# Altium footprint library 28Pins_Project_PCBlib.PcbLib: 27 footprints (part 1 of 2)
Each footprint in its own frame and in the unit in brackets; x right, y up, seen from the top. Pads: shape width x height; smd on the part's side, far side on the other; paste and mask are expansions set on the pad; w line width, h text height; cw(c..) or ccw(c..) is an arc to the next point about the centre after c.
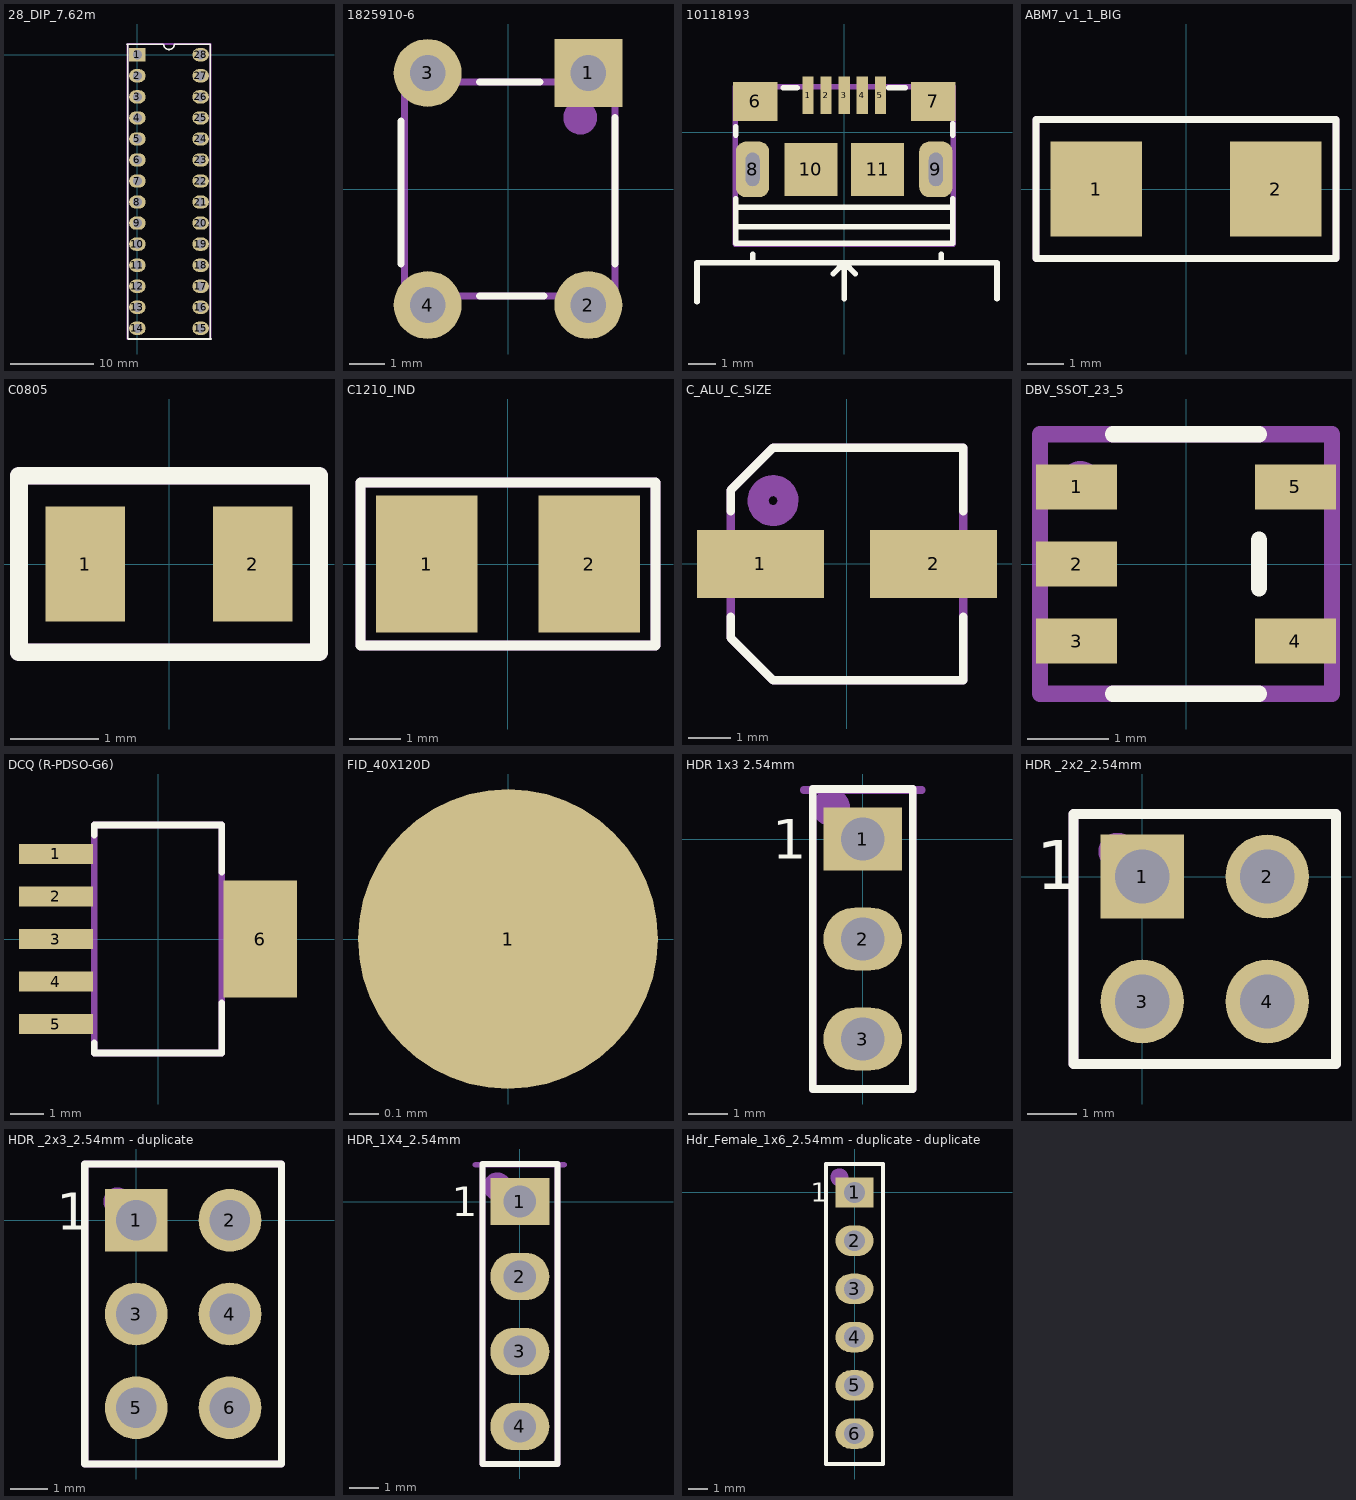
[diagram p0: the footprints below, top view; thin cyan lines are the x and y axes]

## 28_DIP_7.62m [mm]
pads (28):
  rect 2x1.6 hole 1.1: 1(0,0)
  oval 2x1.6 hole 1.1: 2(0,-2.54) 3(0,-5.08) 4(0,-7.62) 5(0,-10.16) 6(0,-12.7) 7(0,-15.24) 8(0,-17.78) 9(0,-20.32) 10(0,-22.86) 11(0,-25.4) 12(0,-27.94) 13(0,-30.48) 14(0,-33.02) 15(7.62,-33.02) 16(7.62,-30.48) 17(7.62,-27.94) 18(7.62,-25.4) 19(7.62,-22.86) 20(7.62,-20.32) 21(7.62,-17.78) 22(7.62,-15.24) 23(7.62,-12.7) 24(7.62,-10.16) 25(7.62,-7.62) 26(7.62,-5.08) 27(7.62,-2.54) 28(7.62,0)
Top Overlay:
  lines w0.2: -1.29,1.29 3.075,1.29 ; -1.19,-34.29 -1.19,1.27 ; -1.09,-34.31 8.91,-34.31 ; 3.175,1.27 ccw(c3.81,1.27) 4.445,1.27 ; 4.445,1.29 8.81,1.29 ; 8.81,-34.29 8.81,1.27
Mechanical 1:
  circle w0.5: c-0.09,0.09 r0.141
  lines w0.254: -1.19,-34.31 8.81,-34.31 8.81,1.29 -1.19,1.29 -1.19,-34.31
  text ".Designator" at 4.9,-31.5 h3
3D body "User Library-28 pin dip.step": height 7.55, standoff 1.33, extent -0.09,-34.481 7.784,1.461

## 28_DIP_7.62mm_SOCKET [mm]
3D body "User Library-28pin 0_3inch 2_54mm IC DIP Gold Socket.step": height 5.5, standoff -2.5, extent -17.18,-5.16 18.38,5

## 1825910-6 [mm]
pads (4):
  rect 1.9x1.9 hole 1: 1(2.25,3.25)
  round 1.9 hole 1: 2(2.25,-3.25) 3(-2.25,3.25) 4(-2.25,-3.25)
Top Overlay:
  lines w0.2: -3,-2.1 -3,1.9 ; -0.8,-3 1,-3 ; -0.8,3 0.9,3 ; 3,-2.1 3,2
Mechanical 1:
  circle w0.5: c2.024,2 r0.224
  lines w0.2: -3,-3 -2.9,-2.9 -2.9,3 -0.8,3 3,3 3,-3 -3,-3
3D body "User Library-FSM4JLH(1825910-5).step": height 5, standoff -3.51, extent -2.995,-3.898 2.995,3.9

## 10118193 [mm]
pads (11):
  rect 0.4x1.35 smd mask+0.05: 1(-1.3,1.338) 2(-0.65,1.338) 3(0,1.338) 4(0.65,1.338) 5(1.3,1.338)
  rect 1.6x1.4 smd: 6(-3.2,1.112) 7(3.2,1.112)
  rrect60% 1.2x2 hole 0.5 slot 1.2 at 90 deg mask+0.102: 8(-3.3,-1.338) 9(3.3,-1.338)
  rect 1.9x1.9 smd: 10(-1.2,-1.338) 11(1.2,-1.338)
Top Overlay:
  lines w0.2: -5.3,-6.1 -5.3,-4.7 -4.8,-4.7 5.5,-4.7 5.5,-6 ; -3.9,-3.4 3.8,-3.4 ; -3.9,-2.7 3.9,-2.7 ; -3.9,-2.4 -3.9,-4 3.9,-4 3.9,-2.4 ; -3.9,-0.1 -3.9,0.2 ; -3.3,-4.7 -3.3,-4.4 ; -2.2,1.6 -1.7,1.6 ; -0.4,-5.1 0,-4.7 ; 0,-6 0,-4.7 ; 0.4,-5.1 0,-4.7 ; 1.6,1.6 2.2,1.6 ; 3.5,-4.7 3.5,-4.4 ; 3.9,-0.1 3.9,0.3
Mechanical 1:
  lines w0.2: 3.928,-4.023 3.928,1.637 ; 3.928,-4.023 3.928,-4.023 ; 3.928,-4.023 -3.928,-4.023 -3.928,1.638 3.928,1.638 ; 3.928,1.638 3.928,1.637
  text ".Designator" at -2.7,-2.4 h1.5
3D body "User Library-10118193.step": height 2.81, standoff -0.79, extent -3.928,-4.023 3.928,1.638

## ABM7_v1_1_BIG [mm]
pads (2):
  rect 2.5x2.6 smd: 1(-2.45,0) 2(2.45,0)
Top Overlay:
  lines w0.2: -4.1,-1.9 4.1,-1.9 4.1,1.9 -4.1,1.9 -4.1,0.8 -4.1,-1.9
Mechanical 1:
  lines w0.2: -4.1,-1.9 4.1,-1.9 4.1,1.9 -4.1,1.9 -4.1,-1.9
  text ".Designator" at -2.5,-0.7 h0.6
3D body "User Library-ABM7.step": height 1.44, standoff 0, extent -3.05,-1.75 3.05,1.75

## C0805 [mm]
pads (2):
  rect 0.9x1.3 smd: 1(-0.95,0) 2(0.95,0)
Top Overlay:
  lines w0.2: -1.7,-1 1.7,-1 1.7,1 -1.7,1 -1.7,0.15 -1.7,-1
Mechanical 1:
  lines w0.2: -1.7,-1 -1.7,1 1.7,1 1.7,-1 -1.7,-1
  text ".Designator" at -1.4,-0.5 h0.6
3D body "CAPC2012X94N EIA 0805.step": height 1.45, standoff 0.51, extent -1,-0.6 1,0.6
3D body "CAPC2012X94N EIA 0805.step": height 0.94, standoff 0, extent -1,-0.6 1,0.6

## C1210_IND [mm]
pads (2):
  rect 2x2.7 smd: 1(-1.6,0) 2(1.6,0)
Top Overlay:
  lines w0.2: -2.9,-1.6 2.9,-1.6 2.9,1.6 -2.9,1.6 -2.9,-1.6
Mechanical 1:
  lines w0.2: -2.9,-1.6 2.9,-1.6 2.9,1.6 -2.9,1.6 -2.9,-1.6
  text ".Designator" at -2.1,-0.1 h1
3D body: height 2.7, standoff -0.01, extent -1.6,-1.25 -1.6,-1.25
3D body: height 2.7, standoff -0.01, extent -1.9,-1.25 -1.9,-1.25
3D body: height 2.7, standoff -0.01, extent 1.5,-1 1.7,1
3D body: height 2.7, standoff -0.01, extent -1.7,-1 -1.5,1
3D body: height 2.7, standoff -0.01, extent -1.5,-1 1.5,1

## C_ALU_C_SIZE [mm]
pads (2):
  rect 3x1.6 smd: 1(-2.05,0) 2(2.05,0)
Top Overlay:
  lines w0.2: -2.75,-1.25 -2.75,-1.75 -1.75,-2.75 2.75,-2.75 2.75,-1.25 ; -2.75,1.25 -2.75,1.75 -1.75,2.75 2.75,2.75 2.75,1.25
Mechanical 1:
  lines w0.2: -2.75,-1.75 -1.75,-2.75 2.75,-2.75 2.75,2.75 -1.75,2.75 -2.75,1.75 -2.75,1.25 -2.75,-1.75
  lines w0.5: -1.407,1.414 cw(c-1.75,1.5) -1.396,1.5
  text ".Designator" at -2,-1 h1.3
3D body "User Library-capacitor size C.step": height 5.41, standoff -0.01, extent -2.95,-2.65 2.95,2.65

## DBV_SSOT_23_5 [mm]
pads (5):
  rect 1x0.55 smd: 1(-1.35,0.95) 2(-1.35,0) 3(-1.35,-0.95) 4(1.35,-0.95) 5(1.35,0.95)
Top Overlay:
  lines w0.2: -0.9,-1.6 0.9,-1.6 ; -0.9,1.6 0.9,1.6 ; 0.9,-0.3 0.9,0.3
Mechanical 1:
  circle w0.254: c-1.3,1 r0.141
  lines w0.2: -1.8,-1.6 1.8,-1.6 1.8,1.6 -0.9,1.6 -1.8,1.6 -1.8,-1.6
  text ".Designator" at -1.2,-0.4 h0.6
3D body "User Library-TPS79333DBVR.step": height 1.6, standoff -0.02, extent -1.513,-1.525 1.514,1.525

## DCQ (R-PDSO-G6) [mm]
pads (6):
  rect 2.2x0.6 smd: 1(-3.048,2.54) 2(-3.048,1.27) 3(-3.048,0) 4(-3.048,-1.27) 5(-3.048,-2.54)
  rect 2.2x3.5 smd: 6(3.048,0)
Top Overlay:
  lines w0.2: -1.9,-3.1 -1.9,-3.4 1.9,-3.4 1.9,-3.3 1.9,-1.9 ; -1.9,3.1 -1.9,3.4 1.9,3.4 1.9,2
Mechanical 1:
  lines w0.2: -1.9,-3.4 1.9,-3.4 1.9,3.4 -1.9,3.4 -1.9,-3.4
  text ".Designator" at -1.5,-0.4 h1.5
3D body "User Library-TPS73701DCQ.step": height 1.8, standoff 0, extent -3.63,-3.375 3.63,3.175

## FID_40X120D [mil]
pads (1):
  round 40 smd paste-40 mask+40: 1(0,0)

## HDR 1x3 2.54mm [mm]
pads (3):
  rect 2x1.6 hole 1.1: 1(0,0)
  oval 2x1.6 hole 1.1: 2(0,-2.54) 3(0,-5.08)
Top Overlay:
  lines w0.2: -1.27,-6.35 1.27,-6.35 1.27,1.27 -1.27,1.27 -1.27,-6.35
  text "1" at -2.3,-0.5 h1
Mechanical 1:
  circle w0.5: c-0.8,0.8 r0.224
  lines w0.2: -1.5,1.246 1.5,1.246 ; -1.27,-6.35 1.27,-6.35 1.27,1.27 -1.27,1.27 -1.27,-6.35
  text ".Designator" at 0.762,-6.096 h1.52
3D body "User Library-1x3 TH Pitch 2_54mm.STEP": height 9.21, standoff -3.49, extent -1.27,-6.35 1.27,1.27

## HDR _2x2_2.54mm [mm]
pads (4):
  rect 1.7x1.7 hole 1.1: 1(0,0)
  round 1.7 hole 1.1: 2(2.54,0) 3(0,-2.54) 4(2.54,-2.54)
Top Overlay:
  lines w0.2: 1.651,1.27 -1.397,1.27 -1.397,-3.81 3.937,-3.81 3.937,1.27 3.111,1.27 1.714,1.27
  text "1" at -2.159,-0.254 h1
Mechanical 1:
  circle w0.508: c-0.508,0.508 r0.127
  lines w0.2: -1.397,-3.81 3.937,-3.81 3.937,1.27 -1.397,1.27 -1.397,-3.81
  text ".Designator" at 1.397,-3.556 h0.6
3D body "CircuitWorks-HEADER 2_54 VERTICAL 2X.step": height 8.55, standoff -2.45, extent -1.27,-3.79 3.81,-1.29
3D body "CircuitWorks-HEADER 2_54 VERTICAL 2X.step": height 8.55, standoff -2.45, extent -1.27,-1.27 3.81,1.23

## HDR _2x3_2.54mm - duplicate [mm]
pads (6):
  rect 1.7x1.7 hole 1.1: 1(0,0)
  round 1.7 hole 1.1: 2(2.54,0) 3(0,-2.54) 4(2.54,-2.54) 5(0,-5.08) 6(2.54,-5.08)
Top Overlay:
  lines w0.2: 1.714,1.524 2.857,1.524 3.937,1.524 3.937,-6.604 -1.397,-6.604 -1.397,1.524 1.905,1.524
  text "1" at -2.159,-0.254 h1
Mechanical 1:
  circle w0.508: c-0.508,0.508 r0.127
  lines w0.2: -1.397,-6.604 3.937,-6.604 3.937,1.524 -1.397,1.524 -1.397,-6.604
  text ".Designator" at 1.397,-4.699 h0.6
3D body "961206-6404-XX.stp": height 7.5, standoff -3.8, extent -1.23,-6.35 3.77,1.27

## HDR_1X4_2.54mm [mm]
pads (4):
  rect 2x1.6 hole 1.1: 1(0,0)
  oval 2x1.6 hole 1.1: 2(0,-2.54) 3(0,-5.08) 4(0,-7.62)
Top Overlay:
  lines w0.2: -1.27,-8.89 1.27,-8.89 1.27,1.27 -1.27,1.27 -1.27,-8.89
  text "1" at -2.3,-0.5 h1
Mechanical 1:
  circle w0.5: c-0.762,0.508 r0.224
  lines w0.2: -1.5,1.246 1.5,1.246 ; -1.27,-8.89 1.27,-8.89 1.27,1.27 -1.27,1.27 -1.27,-8.89
  text ".Designator" at 0.508,-8.382 h1.52
3D body "User Library-1x4 TH Pitch 2_54mm.STEP": height 9.2, standoff -3.5, extent -1.27,-8.89 1.27,1.27

## Hdr_Female_1x6_2.54mm - duplicate - duplicate [mm]
pads (6):
  rect 2x1.6 hole 1.1: 1(0,0)
  oval 2x1.6 hole 1.1: 2(0,-2.54) 3(0,-5.08) 4(0,-7.62) 5(0,-10.16) 6(0,-12.7)
Top Overlay:
  lines w0.2: -1.5,-14.3 1.5,-14.3 1.5,1.5 -1.5,1.5 -1.5,-14.3
  text "1" at -2.3,-0.5 h1
Mechanical 1:
  circle w0.5: c-0.8,0.8 r0.224
  lines w0.2: -1.5,1.5 -1.5,-14.3 1.5,-14.3 1.5,1.5 ; -1.5,1.5 1.5,1.5 ; -1.5,1.5 1.5,1.5
  text ".Designator" at 0.6,-8.8 h1.52
3D body "m20-7820646_asm.stp": height 8.31, standoff -3.19, extent -1.25,-14.17 1.25,1.47